# Altium footprint library WE-CNSW.PcbLib: 5 footprints
Each footprint in its own frame and in the unit in brackets; x right, y up, seen from the top. Pads: shape width x height; smd on the part's side, far side on the other; paste and mask are expansions set on the pad; w line width, h text height; cw(c..) or ccw(c..) is an arc to the next point about the centre after c.
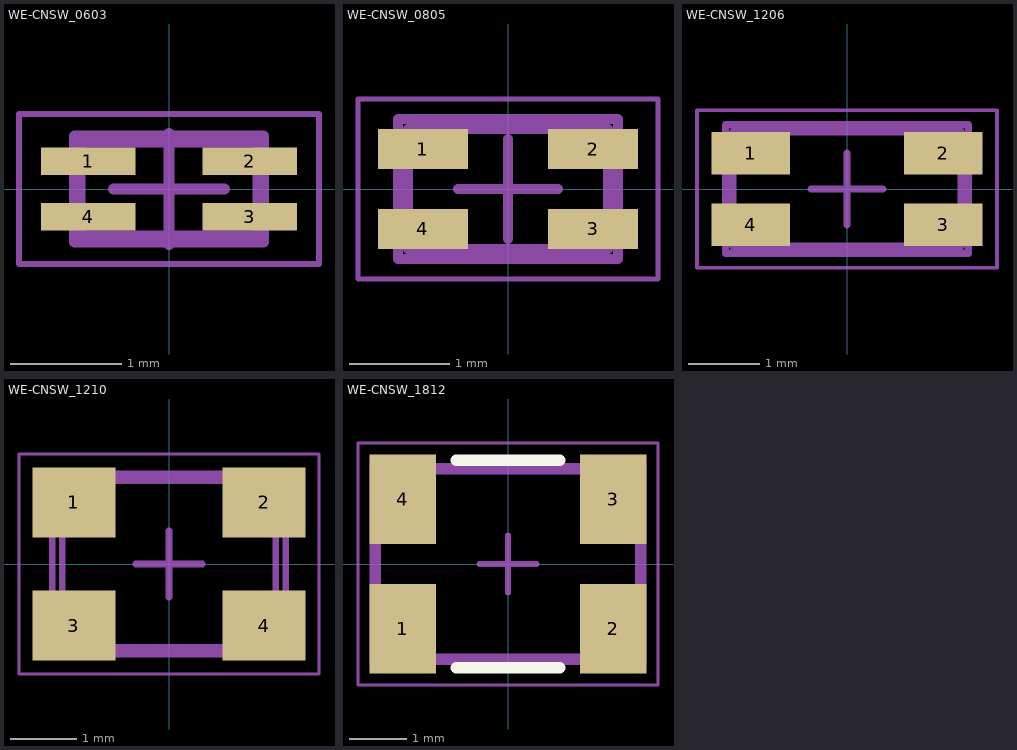
[diagram p0: the footprints below, top view; thin cyan lines are the x and y axes]

## WE-CNSW_0603 [mm] "SMT Common Mode Line Filter, 4-leads, body 1.60x0.85mm"
height 1.1
pads (4):
  rect 0.85x0.25 smd: 1(-0.725,0.25) 2(0.725,0.25) 3(0.725,-0.25) 4(-0.725,-0.25)
Top Assembly:
  lines w0.1: -0.85,-0.475 0.85,-0.475 0.85,0.475 -0.85,0.475 -0.85,-0.475
Top Designator:
  text ".Designator" at -3.647,-0.357 h1
Top 3D Body:
  lines w0.1: -0.8,-0.425 0.8,-0.425 0.8,0.425 -0.8,0.425 -0.8,-0.425
Top Courtyard:
  lines w0.05: -1.35,-0.675 1.35,-0.675 1.35,0.675 -1.35,0.675 -1.35,-0.675
Top Component Center:
  lines w0.1: -0.5,0 0.5,0 ; 0,-0.5 0,0.5
3D body "0603_744230xxx.stp": height 1.1, standoff 0, extent -0.8,-0.425 0.8,0.425

## WE-CNSW_0805 [mm] "SMT Common Mode Line Filter, 4-leads, body 2.00x1.20mm"
height 1.2
pads (4):
  rect 0.9x0.4 smd: 1(-0.85,0.4) 2(0.85,0.4) 3(0.85,-0.4) 4(-0.85,-0.4)
Top Assembly:
  lines w0.1: -1.1,-0.7 -1.1,0.7 1.1,0.7 1.1,-0.7 -1.1,-0.7
Top Designator:
  text ".Designator" at -3.647,-0.357 h1
Top 3D Body:
  lines w0.1: -1,-0.6 -1,0.6 1,0.6 1,-0.6 -1,-0.6
Top Courtyard:
  lines w0.05: -1.5,-0.9 1.5,-0.9 1.5,0.9 -1.5,0.9 -1.5,-0.9
Top Component Center:
  lines w0.1: -0.5,0 0.5,0 ; 0,-0.5 0,0.5
3D body "744231xxx.stp": height 1.2, standoff 0, extent -1,-0.6 1,0.6

## WE-CNSW_1206 [mm] "SMT Common Mode Line Filter, 4-leads, body 3.20x1.60mm"
height 1.8
pads (4):
  rect 1.1x0.6 smd: 1(-1.35,0.5) 2(1.35,0.5) 3(1.35,-0.5) 4(-1.35,-0.5)
Top Assembly:
  lines w0.1: -1.7,-0.9 -1.7,0.9 1.7,0.9 1.7,-0.9 -1.7,-0.9
Top Designator:
  text ".Designator" at -3.647,-0.357 h1
Top 3D Body:
  lines w0.1: -1.6,-0.8 -1.6,0.8 1.6,0.8 1.6,-0.8 -1.6,-0.8
Top Courtyard:
  lines w0.05: -2.1,-1.1 2.1,-1.1 2.1,1.1 -2.1,1.1 -2.1,-1.1
Top Component Center:
  lines w0.1: -0.5,0 0.5,0 ; 0,-0.5 0,0.5
3D body "744232xxx.stp": height 1.8, standoff 0, extent -1.6,-0.8 1.6,0.8

## WE-CNSW_1210 [mm] "SMT Common Mode Line Filter, 4-leads, body 3.20x2.50mm"
height 2.4
pads (4):
  rect 1.25x1.05 smd: 1(-1.425,0.925) 2(1.425,0.925) 3(-1.425,-0.925) 4(1.425,-0.925)
Top Assembly:
  lines w0.1: -1.75,-1.35 1.75,-1.35 1.75,1.35 -1.75,1.35 -1.75,-1.35
Top Designator:
  text ".Designator" at -3.647,-0.357 h1
Top 3D Body:
  lines w0.1: -1.6,-1.25 1.6,-1.25 1.6,1.25 -1.6,1.25 -1.6,-1.25
Top Courtyard:
  lines w0.05: -2.25,-1.65 -2.25,1.65 2.25,1.65 2.25,-1.65 -2.25,-1.65
Top Component Center:
  lines w0.1: -0.5,0 0.5,0 ; 0,-0.5 0,0.5
3D body "744234xxx.stp": height 2.42, standoff 0.01, extent -1.6,-1.25 1.6,1.25

## WE-CNSW_1812 [mm] "SMT Common Mode Line Filter, 4-leads, body 4.50x3.20mm"
height 2.8
pads (4):
  rect 1.15x1.55 smd: 1(-1.825,-1.125) 2(1.825,-1.125) 3(1.825,1.125) 4(-1.825,1.125)
Top Overlay:
  lines w0.2: -0.9,-1.8 0.9,-1.8 ; -0.9,1.8 0.9,1.8
Top Assembly:
  lines w0.1: -2.35,-1.7 -2.35,1.7 2.35,1.7 2.35,-1.7 -2.35,-1.7
Top Designator:
  text ".Designator" at -3.647,-0.357 h1
Top 3D Body:
  lines w0.1: -2.25,-1.6 -2.25,1.6 2.25,1.6 2.25,-1.6 -2.25,-1.6
Top Courtyard:
  lines w0.05: -2.6,-2.1 2.6,-2.1 2.6,2.1 -2.6,2.1 -2.6,-2.1
Top Component Center:
  lines w0.1: -0.5,0 0.5,0 ; 0,-0.5 0,0.5
3D body "744235xxx.stp": height 2.84, standoff -0.01, extent -2.25,-1.6 2.25,1.6